# Altium footprint library Lib.PcbLib: 4 footprints
Each footprint in its own frame and in the unit in brackets; x right, y up, seen from the top. Pads: shape width x height; smd on the part's side, far side on the other; paste and mask are expansions set on the pad; w line width, h text height; cw(c..) or ccw(c..) is an arc to the next point about the centre after c.
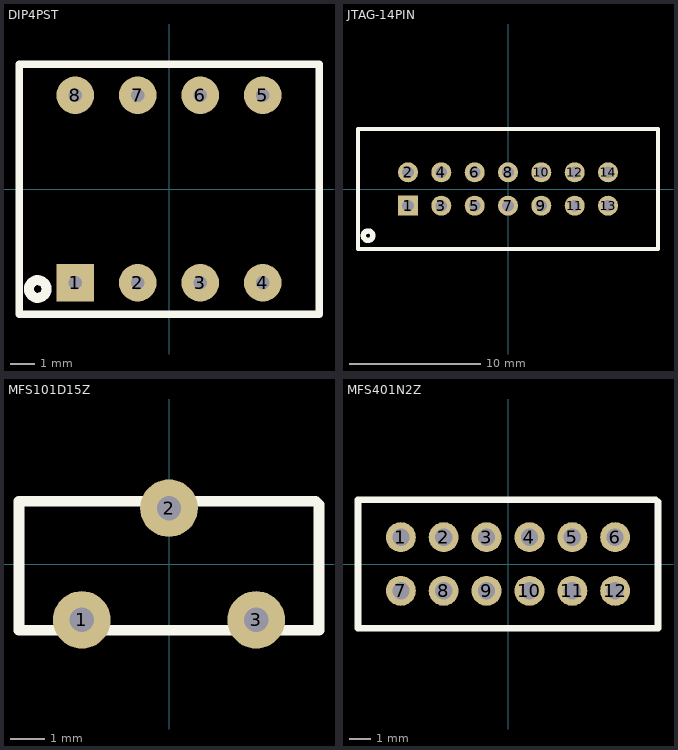
[diagram p0: the footprints below, top view; thin cyan lines are the x and y axes]

## DIP4PST [mil] "DIP Switch 4PST 78H01T"
height 300
pads (8):
  rect 60x60 hole 22: 1(-150,-150)
  round 60 hole 22: 2(-50,-150) 3(50,-150) 4(150,-150) 5(150,150) 6(50,150) 7(-50,150) 8(-150,150)
Top Overlay:
  circle w16: c-210,-160 r14.14
  lines w12: -240,-200 240,-200 240,200 -240,200 -240,-200
3D body: height 300, standoff 0, extent -240,-200 240,200

## JTAG-14PIN [mil] "JTAG 14 pin header for MSP430"
height 360
pads (14):
  rect 60x60 hole 35.43: 1(-300,-50)
  round 60 hole 35.43: 2(-300,50) 3(-200,-50) 4(-200,50) 5(-100,-50) 6(-100,50) 7(0,-50) 8(0,50) 9(100,-50) 10(100,50) 11(200,-50) 12(200,50) 13(300,-50) 14(300,50)
Top Overlay:
  circle w16: c-420,-140 r14.14
  lines w12: -450,-180 -450,180 450,180 450,-180 -450,-180
3D body: height 300, standoff 0, extent -450,-180 450,180

## MFS101D15Z [mm] "SPDT Switch"
height 8.5
pads (3):
  round 1.651 hole 0.7: 1(-2.5,-1.6) 2(0,1.6) 3(2.5,-1.6)
Top Overlay:
  lines w0.305: -4.3,-1.9 -4.3,1.8 4.2,1.8 4.3,1.7 4.3,-1.9 -4.3,-1.9
3D body: height 5.5, standoff 0, extent -4.3,-1.8 4.3,1.8

## MFS401N2Z [mm] "4PDT Switch Through-Hole"
height 7.2
pads (12):
  round 1.4 hole 0.8: 1(-5,1.25) 2(-3,1.25) 3(-1,1.25) 4(1,1.25) 5(3,1.25) 6(5,1.25) 7(-5,-1.25) 8(-3,-1.25) 9(-1,-1.25) 10(1,-1.25) 11(3,-1.25) 12(5,-1.25)
Top Overlay:
  lines w0.305: -7,-3 7,-3 7,2.9 6.9,3 -7,3 -7,-3
3D body: height 5.7, standoff 0, extent -7,-3 7,3